# Altium integrated library ASPI-0520LR-4R7M-T2.IntLib: 1 symbol
Pins are listed as number, name and electrical type; pins without a type are passive.

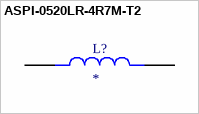
[diagram p0: symbol ASPI-0520LR-4R7M-T2]

## ASPI-0520LR-4R7M-T2
designator L?
4.7 ÂµH Unshielded Molded Inductor 3.7 A 58mOhm Max 2220 (5650 Metric); MP: ASPI-0520LR-4R7M-T2; MF: Abracon; Purchase-URL: https://pricing.snapeda.com/search/part/ASPI-0520LR-4R7M-T2/?ref=eda; Package: 2220 Abracon; Value: *; Availability: In Stock; Price: None; SnapEDA_Link: https://www.snapeda.com/parts/ASPI-0520LR-4R7M-T2/Abracon/view-part/?ref=snap; Check_prices: https://www.snapeda.com/parts/ASPI-0520LR-4R7M-T2/Abracon/view-part/?ref=eda
footprint IND_ASPI-0520LR-4R7M-T2
pins: 1, 2